# EAGLE library part 6P-NANO-SIM-CARD-CONN-SMT (library Seeed-OPL-2017-01-connector-edward)
320100008
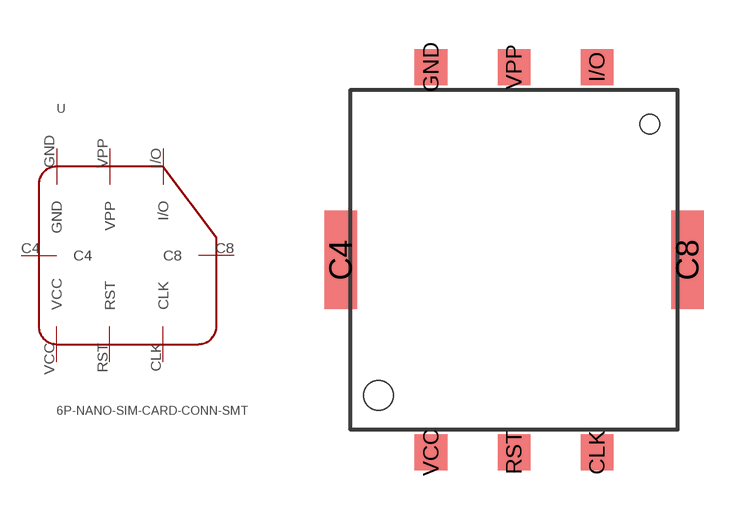
[diagram p4: symbol with the pads of 6PIN-NANO-SIM-SMT; footprint 6PIN-NANO-SIM-SMT]

Designator prefix -

## 6P-NANO-SIM-CARD-CONN-SMT  [6PIN-NANO-SIM-SMT]
C4  C4
C8  C8
CLK  CLK
GND  GND
I/O  I/O
RST  RST
VCC  VCC
VPP  VPP

## Footprint 6PIN-NANO-SIM-SMT (pad centres in mm)
smd 1 x 3: C4 -2.765,5.9; C8 7.845,5.9
smd 1 x 1.1: CLK 5.08,0; GND 0,11.8; I/O 5.08,11.8; RST 2.54,0; VCC 0,0; VPP 2.54,11.8
hole 0.9 at -1.61,1.75
hole 0.6 at 6.69,10.05